# Altium integrated library Xilinx Spartan-IIE FPGA.IntLib: 605 symbols (part 3 of 4)
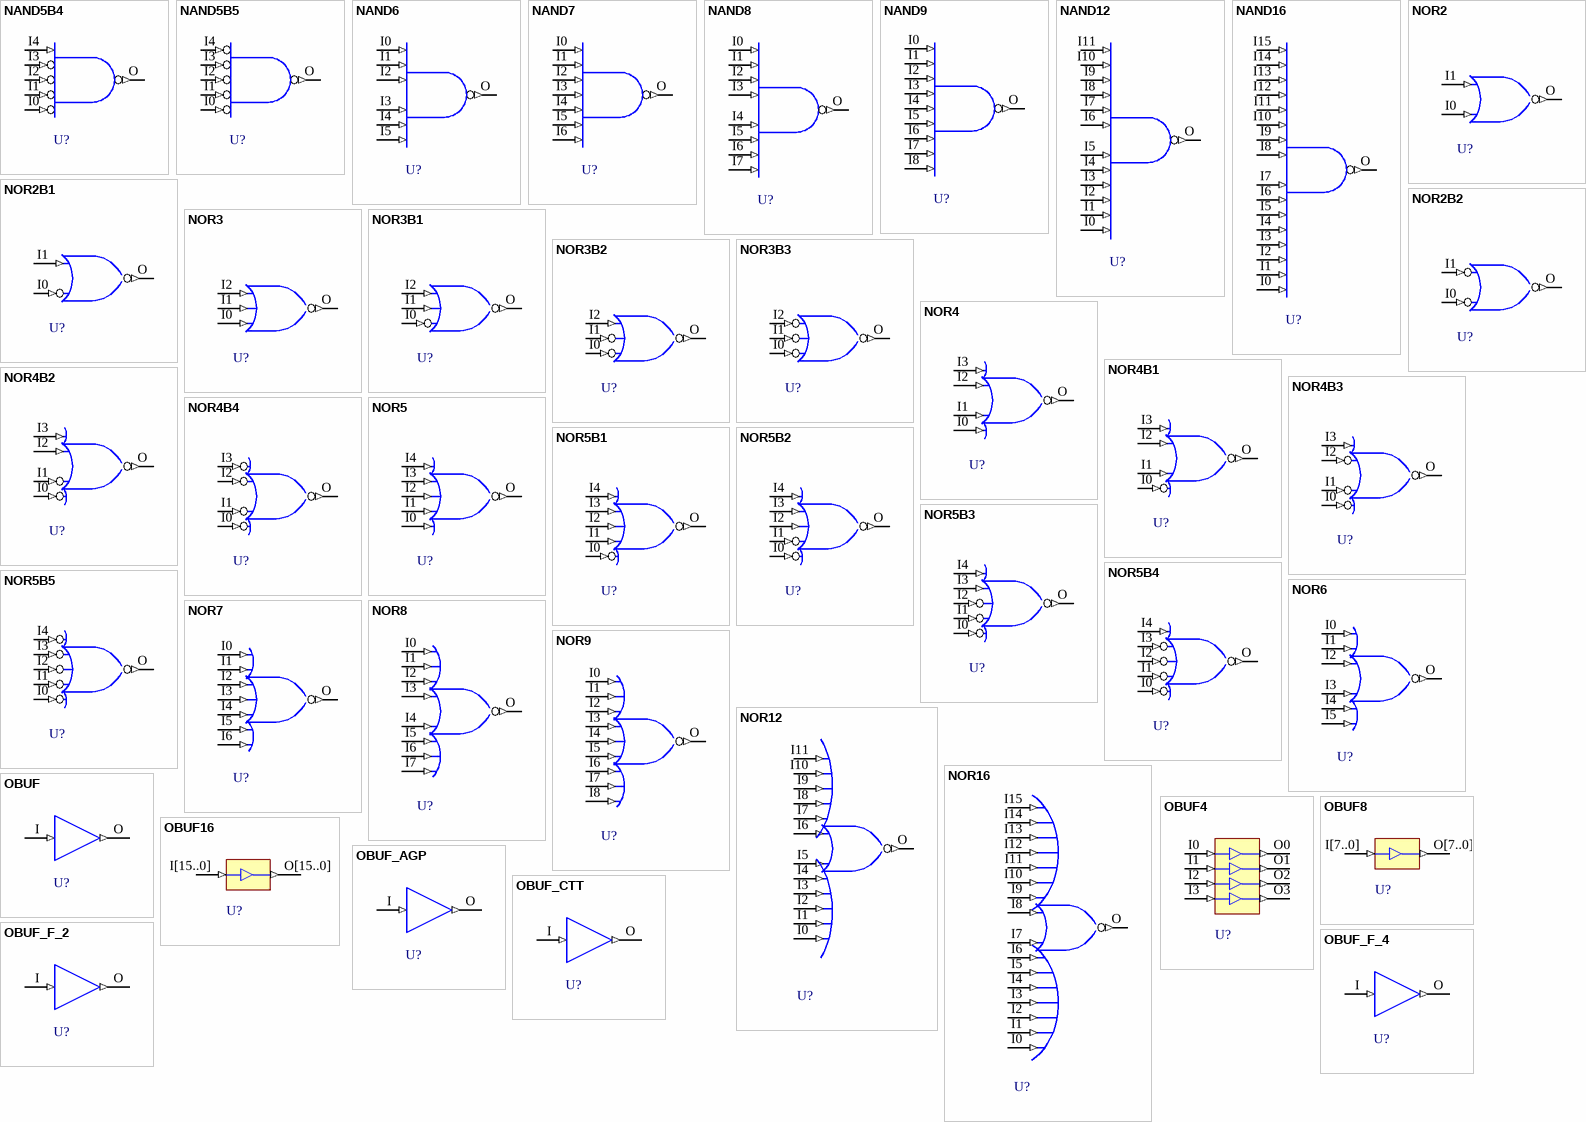
[diagram p17: symbols NAND5B4 to OBUF_F_4]

## NOR2B1
designator U?
2-Input NOR Gate with One Inverted Input; FPGAVendor: Xilinx; Published: 14-Mar-2007; Publisher: Altium Limited; HelpURL: http://toolbox.xilinx.com/docsan/xilinx7/books/docs/lib/lib.pdf
pins: I0 (in), I1 (in), O (out)

## NOR2B2
designator U?
2-Input NOR Gate with Two Inverted Inputs; FPGAVendor: Xilinx; Published: 14-Mar-2007; Publisher: Altium Limited; HelpURL: http://toolbox.xilinx.com/docsan/xilinx7/books/docs/lib/lib.pdf
pins: I0 (in), I1 (in), O (out)

## NOR3
designator U?
3-Input NOR Gate; FPGAVendor: Xilinx; Published: 14-Mar-2007; Publisher: Altium Limited; HelpURL: http://toolbox.xilinx.com/docsan/xilinx7/books/docs/lib/lib.pdf
pins: I0 (in), I1 (in), I2 (in), O (out)

## NOR3B1
designator U?
3-Input NOR Gate with One Inverted Input; FPGAVendor: Xilinx; Published: 14-Mar-2007; Publisher: Altium Limited; HelpURL: http://toolbox.xilinx.com/docsan/xilinx7/books/docs/lib/lib.pdf
pins: I0 (in), I1 (in), I2 (in), O (out)

## NOR3B2
designator U?
3-Input NOR Gate with Two Inverted Inputs; FPGAVendor: Xilinx; Published: 14-Mar-2007; Publisher: Altium Limited; HelpURL: http://toolbox.xilinx.com/docsan/xilinx7/books/docs/lib/lib.pdf
pins: I0 (in), I1 (in), I2 (in), O (out)

## NOR3B3
designator U?
3-Input NOR Gate with Three Inverted Inputs; FPGAVendor: Xilinx; Published: 14-Mar-2007; Publisher: Altium Limited; HelpURL: http://toolbox.xilinx.com/docsan/xilinx7/books/docs/lib/lib.pdf
pins: I0 (in), I1 (in), I2 (in), O (out)

## NOR4
designator U?
4-Input NOR Gate; FPGAVendor: Xilinx; Published: 14-Mar-2007; Publisher: Altium Limited; HelpURL: http://toolbox.xilinx.com/docsan/xilinx7/books/docs/lib/lib.pdf
pins: I0 (in), I1 (in), I2 (in), I3 (in), O (out)

## NOR4B1
designator U?
4-Input NOR Gate with One Inverted Input; FPGAVendor: Xilinx; Published: 14-Mar-2007; Publisher: Altium Limited; HelpURL: http://toolbox.xilinx.com/docsan/xilinx7/books/docs/lib/lib.pdf
pins: I0 (in), I1 (in), I2 (in), I3 (in), O (out)

## NOR4B2
designator U?
4-Input NOR Gate with Two Inverted Inputs; FPGAVendor: Xilinx; Published: 14-Mar-2007; Publisher: Altium Limited; HelpURL: http://toolbox.xilinx.com/docsan/xilinx7/books/docs/lib/lib.pdf
pins: I0 (in), I1 (in), I2 (in), I3 (in), O (out)

## NOR4B3
designator U?
4-Input NOR Gate with Three Inverted Inputs; FPGAVendor: Xilinx; Published: 14-Mar-2007; Publisher: Altium Limited; HelpURL: http://toolbox.xilinx.com/docsan/xilinx7/books/docs/lib/lib.pdf
pins: I0 (in), I1 (in), I2 (in), I3 (in), O (out)

## NOR4B4
designator U?
4-Input NOR Gate with Four Inverted Inputs; FPGAVendor: Xilinx; Published: 14-Mar-2007; Publisher: Altium Limited; HelpURL: http://toolbox.xilinx.com/docsan/xilinx7/books/docs/lib/lib.pdf
pins: I0 (in), I1 (in), I2 (in), I3 (in), O (out)

## NOR5
designator U?
5-Input NOR Gate; FPGAVendor: Xilinx; Published: 14-Mar-2007; Publisher: Altium Limited; HelpURL: http://toolbox.xilinx.com/docsan/xilinx7/books/docs/lib/lib.pdf
pins: I0 (in), I1 (in), I2 (in), I3 (in), I4 (in), O (out)

## NOR5B1
designator U?
5-Input NOR Gate with One Inverted Input; FPGAVendor: Xilinx; Published: 14-Mar-2007; Publisher: Altium Limited; HelpURL: http://toolbox.xilinx.com/docsan/xilinx7/books/docs/lib/lib.pdf
pins: I0 (in), I1 (in), I2 (in), I3 (in), I4 (in), O (out)

## NOR5B2
designator U?
5-Input NOR Gate with Two Inverted Inputs; FPGAVendor: Xilinx; Published: 14-Mar-2007; Publisher: Altium Limited; HelpURL: http://toolbox.xilinx.com/docsan/xilinx7/books/docs/lib/lib.pdf
pins: I0 (in), I1 (in), I2 (in), I3 (in), I4 (in), O (out)

## NOR5B3
designator U?
5-Input NOR Gate with Three Inverted Inputs; FPGAVendor: Xilinx; Published: 14-Mar-2007; Publisher: Altium Limited; HelpURL: http://toolbox.xilinx.com/docsan/xilinx7/books/docs/lib/lib.pdf
pins: I0 (in), I1 (in), I2 (in), I3 (in), I4 (in), O (out)

## NOR5B4
designator U?
5-Input NOR Gate with Four Inverted Inputs; FPGAVendor: Xilinx; Published: 14-Mar-2007; Publisher: Altium Limited; HelpURL: http://toolbox.xilinx.com/docsan/xilinx7/books/docs/lib/lib.pdf
pins: I0 (in), I1 (in), I2 (in), I3 (in), I4 (in), O (out)

## NOR5B5
designator U?
5-Input NOR Gate with Five Inverted Inputs; FPGAVendor: Xilinx; Published: 14-Mar-2007; Publisher: Altium Limited; HelpURL: http://toolbox.xilinx.com/docsan/xilinx7/books/docs/lib/lib.pdf
pins: I0 (in), I1 (in), I2 (in), I3 (in), I4 (in), O (out)

## NOR6
designator U?
6-Input NOR Gate; FPGAVendor: Xilinx; Published: 14-Mar-2007; Publisher: Altium Limited; HelpURL: http://toolbox.xilinx.com/docsan/xilinx7/books/docs/lib/lib.pdf
pins: I0 (in), I1 (in), I2 (in), I3 (in), I4 (in), I5 (in), O (out)

## NOR7
designator U?
7-Input NOR Gate; FPGAVendor: Xilinx; Published: 14-Mar-2007; Publisher: Altium Limited; HelpURL: http://toolbox.xilinx.com/docsan/xilinx7/books/docs/lib/lib.pdf
pins: I0 (in), I1 (in), I2 (in), I3 (in), I4 (in), I5 (in), I6 (in), O (out)

## NOR8
designator U?
8-Input NOR Gate; FPGAVendor: Xilinx; Published: 14-Mar-2007; Publisher: Altium Limited; HelpURL: http://toolbox.xilinx.com/docsan/xilinx7/books/docs/lib/lib.pdf
pins: I0 (in), I1 (in), I2 (in), I3 (in), I4 (in), I5 (in), I6 (in), I7 (in), O (out)

## NOR9
designator U?
9-Input NOR Gate; FPGAVendor: Xilinx; Published: 14-Mar-2007; Publisher: Altium Limited; HelpURL: http://toolbox.xilinx.com/docsan/xilinx7/books/docs/lib/lib.pdf
pins: I0 (in), I1 (in), I2 (in), I3 (in), I4 (in), I5 (in), I6 (in), I7 (in), I8 (in), O (out)

## NOR12
designator U?
12-Input NOR Gate; FPGAVendor: Xilinx; Published: 14-Mar-2007; Publisher: Altium Limited; HelpURL: http://toolbox.xilinx.com/docsan/xilinx7/books/docs/lib/lib.pdf
pins: I0 (in), I1 (in), I2 (in), I3 (in), I4 (in), I5 (in), I6 (in), I7 (in), I8 (in), I9 (in), I10 (in), I11 (in), O (out)

## NOR16
designator U?
16-Input NOR Gate; FPGAVendor: Xilinx; Published: 14-Mar-2007; Publisher: Altium Limited; HelpURL: http://toolbox.xilinx.com/docsan/xilinx7/books/docs/lib/lib.pdf
pins: I0 (in), I1 (in), I2 (in), I3 (in), I4 (in), I5 (in), I6 (in), I7 (in), I8 (in), I9 (in), I10 (in), I11 (in), I12 (in), I13 (in), I14 (in), I15 (in), O (out)

## OBUF
designator U?
Single-Output Buffer (using the LVTTL standard); FPGAVendor: Xilinx; Published: 14-Mar-2007; Publisher: Altium Limited; HelpURL: http://toolbox.xilinx.com/docsan/xilinx7/books/docs/lib/lib.pdf
pins: I (in), O (out)

## OBUF4
designator U?
Multiple-Output Buffers (using the LVTTL standard); FPGAVendor: Xilinx; Published: 14-Mar-2007; Publisher: Altium Limited; HelpURL: http://toolbox.xilinx.com/docsan/xilinx7/books/docs/lib/lib.pdf
pins: I0 (in), I1 (in), I2 (in), I3 (in), O0 (out), O1 (out), O2 (out), O3 (out)

## OBUF8
designator U?
Multiple-Output Buffers (using the LVTTL standard); FPGAVendor: Xilinx; Published: 14-Mar-2007; Publisher: Altium Limited; HelpURL: http://toolbox.xilinx.com/docsan/xilinx7/books/docs/lib/lib.pdf
pins: I[7..0] (in), O[7..0] (out)

## OBUF16
designator U?
Multiple-Output Buffers (using the LVTTL standard); FPGAVendor: Xilinx; Published: 14-Mar-2007; Publisher: Altium Limited; HelpURL: http://toolbox.xilinx.com/docsan/xilinx7/books/docs/lib/lib.pdf
pins: I[15..0] (in), O[15..0] (out)

## OBUF_AGP
designator U?
Single Output Buffer using the AGP standard; FPGAVendor: Xilinx; Published: 14-Mar-2007; Publisher: Altium Limited; HelpURL: http://toolbox.xilinx.com/docsan/xilinx7/books/docs/lib/lib.pdf
pins: I (in), O (out)

## OBUF_CTT
designator U?
Single Output Buffer using the CTT standard; FPGAVendor: Xilinx; Published: 14-Mar-2007; Publisher: Altium Limited; HelpURL: http://toolbox.xilinx.com/docsan/xilinx7/books/docs/lib/lib.pdf
pins: I (in), O (out)

## OBUF_F_2
designator U?
Single Output Buffer using the LVTTL standard; FPGAVendor: Xilinx; Published: 14-Mar-2007; Publisher: Altium Limited; HelpURL: http://toolbox.xilinx.com/docsan/xilinx7/books/docs/lib/lib.pdf
pins: I (in), O (out)

## OBUF_F_4
designator U?
Single Output Buffer using the LVTTL standard; FPGAVendor: Xilinx; Published: 14-Mar-2007; Publisher: Altium Limited; HelpURL: http://toolbox.xilinx.com/docsan/xilinx7/books/docs/lib/lib.pdf
pins: I (in), O (out)

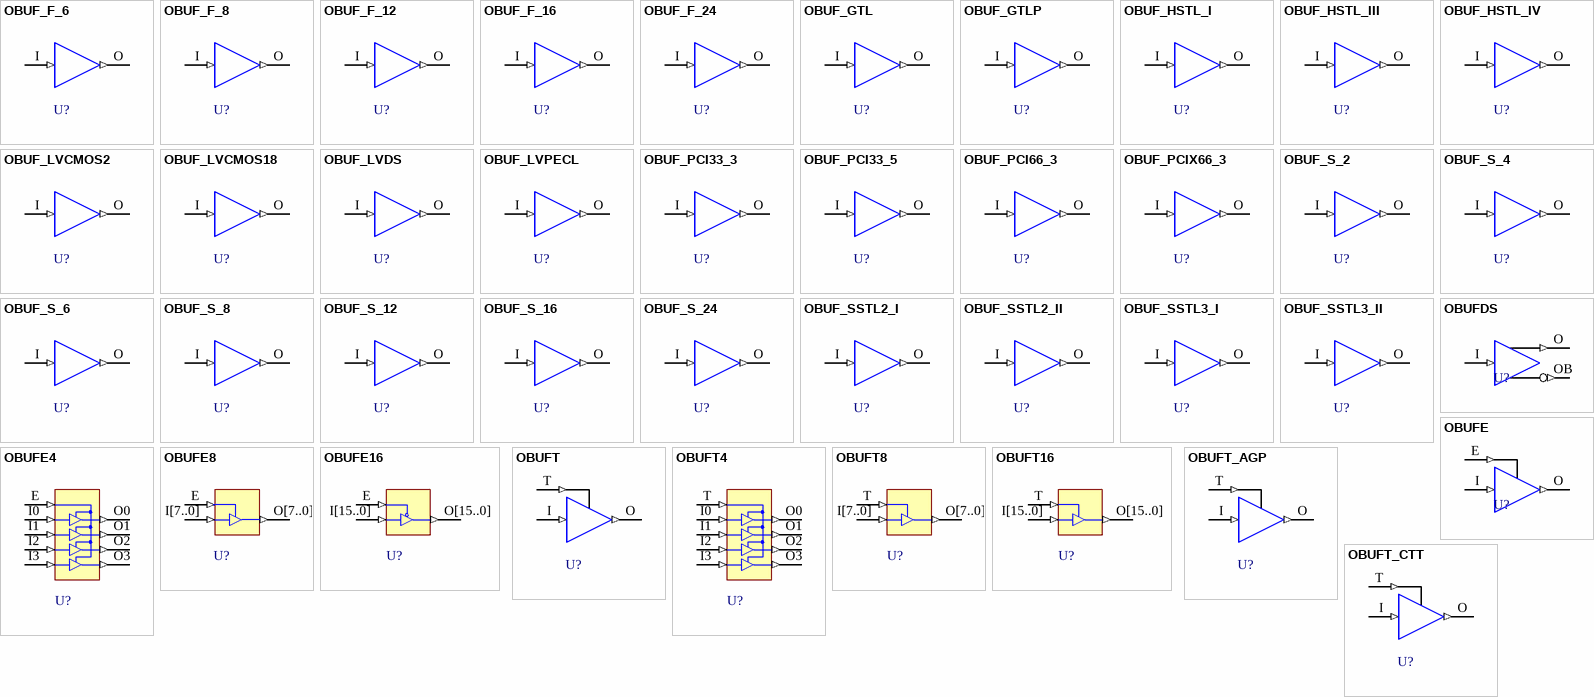
[diagram p10: symbols OBUF_F_6 to OBUFT_CTT]

## OBUF_F_6
designator U?
Single Output Buffer using the LVTTL standard; FPGAVendor: Xilinx; Published: 14-Mar-2007; Publisher: Altium Limited; HelpURL: http://toolbox.xilinx.com/docsan/xilinx7/books/docs/lib/lib.pdf
pins: I (in), O (out)

## OBUF_F_8
designator U?
Single Output Buffer using the LVTTL standard; FPGAVendor: Xilinx; Published: 14-Mar-2007; Publisher: Altium Limited; HelpURL: http://toolbox.xilinx.com/docsan/xilinx7/books/docs/lib/lib.pdf
pins: I (in), O (out)

## OBUF_F_12
designator U?
Single Output Buffer using the LVTTL standard; FPGAVendor: Xilinx; Published: 14-Mar-2007; Publisher: Altium Limited; HelpURL: http://toolbox.xilinx.com/docsan/xilinx7/books/docs/lib/lib.pdf
pins: I (in), O (out)

## OBUF_F_16
designator U?
Single Output Buffer using the LVTTL standard; FPGAVendor: Xilinx; Published: 14-Mar-2007; Publisher: Altium Limited; HelpURL: http://toolbox.xilinx.com/docsan/xilinx7/books/docs/lib/lib.pdf
pins: I (in), O (out)

## OBUF_F_24
designator U?
Single Output Buffer using the LVTTL standard; FPGAVendor: Xilinx; Published: 14-Mar-2007; Publisher: Altium Limited; HelpURL: http://toolbox.xilinx.com/docsan/xilinx7/books/docs/lib/lib.pdf
pins: I (in), O (out)

## OBUF_GTL
designator U?
Single Output Buffer using the GTL standard; FPGAVendor: Xilinx; Published: 14-Mar-2007; Publisher: Altium Limited; HelpURL: http://toolbox.xilinx.com/docsan/xilinx7/books/docs/lib/lib.pdf
pins: I (in), O (out)

## OBUF_GTLP
designator U?
Single Output Buffer using the GTL Plus standard; FPGAVendor: Xilinx; Published: 14-Mar-2007; Publisher: Altium Limited; HelpURL: http://toolbox.xilinx.com/docsan/xilinx7/books/docs/lib/lib.pdf
pins: I (in), O (out)

## OBUF_HSTL_I
designator U?
Single Output Buffer using the HSTL_I standard; FPGAVendor: Xilinx; Published: 14-Mar-2007; Publisher: Altium Limited; HelpURL: http://toolbox.xilinx.com/docsan/xilinx7/books/docs/lib/lib.pdf
pins: I (in), O (out)

## OBUF_HSTL_III
designator U?
Single Output Buffer using the HSTL_III standard; FPGAVendor: Xilinx; Published: 14-Mar-2007; Publisher: Altium Limited; HelpURL: http://toolbox.xilinx.com/docsan/xilinx7/books/docs/lib/lib.pdf
pins: I (in), O (out)

## OBUF_HSTL_IV
designator U?
Single Output Buffer using the HSTL_IV standard; FPGAVendor: Xilinx; Published: 14-Mar-2007; Publisher: Altium Limited; HelpURL: http://toolbox.xilinx.com/docsan/xilinx7/books/docs/lib/lib.pdf
pins: I (in), O (out)

## OBUF_LVCMOS2
designator U?
Single Output Buffer using the LVCMOS2 standard; FPGAVendor: Xilinx; Note: Not supported for Virtex; Published: 14-Mar-2007; Publisher: Altium Limited; HelpURL: http://toolbox.xilinx.com/docsan/xilinx7/books/docs/lib/lib.pdf
pins: I (in), O (out)

## OBUF_LVCMOS18
designator U?
Single Output Buffer using the LVCMOS18 standard; FPGAVendor: Xilinx; Note: Not supported for Virtex; Published: 14-Mar-2007; Publisher: Altium Limited; HelpURL: http://toolbox.xilinx.com/docsan/xilinx7/books/docs/lib/lib.pdf
pins: I (in), O (out)

## OBUF_LVDS
designator U?
Single Output Buffer using the LVDS standard; FPGAVendor: Xilinx; Note: Not supported for Virtex; Published: 14-Mar-2007; Publisher: Altium Limited; HelpURL: http://toolbox.xilinx.com/docsan/xilinx7/books/docs/lib/lib.pdf
pins: I (in), O (out)

## OBUF_LVPECL
designator U?
Single Output Buffer using the LVPECL standard; FPGAVendor: Xilinx; Note: Not supported for Virtex; Published: 14-Mar-2007; Publisher: Altium Limited; HelpURL: http://toolbox.xilinx.com/docsan/xilinx7/books/docs/lib/lib.pdf
pins: I (in), O (out)

## OBUF_PCI33_3
designator U?
Single Output Buffer using the PCI33_3 standard; FPGAVendor: Xilinx; Published: 14-Mar-2007; Publisher: Altium Limited; HelpURL: http://toolbox.xilinx.com/docsan/xilinx7/books/docs/lib/lib.pdf
pins: I (in), O (out)

## OBUF_PCI33_5
designator U?
Single Output Buffer using the PCI33_5 standard; FPGAVendor: Xilinx; Published: 14-Mar-2007; Publisher: Altium Limited; HelpURL: http://toolbox.xilinx.com/docsan/xilinx7/books/docs/lib/lib.pdf
pins: I (in), O (out)

## OBUF_PCI66_3
designator U?
Single Output Buffer using the PCI66_3 standard; FPGAVendor: Xilinx; Published: 14-Mar-2007; Publisher: Altium Limited; HelpURL: http://toolbox.xilinx.com/docsan/xilinx7/books/docs/lib/lib.pdf
pins: I (in), O (out)

## OBUF_PCIX66_3
designator U?
Single Output Buffer using the PCIX66_3 standard; FPGAVendor: Xilinx; Published: 14-Mar-2007; Publisher: Altium Limited; HelpURL: http://toolbox.xilinx.com/docsan/xilinx7/books/docs/lib/lib.pdf
pins: I (in), O (out)

## OBUF_S_2
designator U?
Single Output Buffer using the  LVTTL standard; FPGAVendor: Xilinx; Published: 14-Mar-2007; Publisher: Altium Limited; HelpURL: http://toolbox.xilinx.com/docsan/xilinx7/books/docs/lib/lib.pdf
pins: I (in), O (out)

## OBUF_S_4
designator U?
Single Output Buffer using the LVTTL standard; FPGAVendor: Xilinx; Published: 14-Mar-2007; Publisher: Altium Limited; HelpURL: http://toolbox.xilinx.com/docsan/xilinx7/books/docs/lib/lib.pdf
pins: I (in), O (out)

## OBUF_S_6
designator U?
Single Output Buffer using the LVTTL standard; FPGAVendor: Xilinx; Published: 14-Mar-2007; Publisher: Altium Limited; HelpURL: http://toolbox.xilinx.com/docsan/xilinx7/books/docs/lib/lib.pdf
pins: I (in), O (out)

## OBUF_S_8
designator U?
Single Output Buffer using the LVTTL standard; FPGAVendor: Xilinx; Published: 14-Mar-2007; Publisher: Altium Limited; HelpURL: http://toolbox.xilinx.com/docsan/xilinx7/books/docs/lib/lib.pdf
pins: I (in), O (out)

## OBUF_S_12
designator U?
Single Output Buffer using the LVTTL standard; FPGAVendor: Xilinx; Published: 14-Mar-2007; Publisher: Altium Limited; HelpURL: http://toolbox.xilinx.com/docsan/xilinx7/books/docs/lib/lib.pdf
pins: I (in), O (out)

## OBUF_S_16
designator U?
Single Output Buffer using the LVTTL standard; FPGAVendor: Xilinx; Published: 14-Mar-2007; Publisher: Altium Limited; HelpURL: http://toolbox.xilinx.com/docsan/xilinx7/books/docs/lib/lib.pdf
pins: I (in), O (out)

## OBUF_S_24
designator U?
Single Output Buffer using the LVTTL standard; FPGAVendor: Xilinx; Published: 14-Mar-2007; Publisher: Altium Limited; HelpURL: http://toolbox.xilinx.com/docsan/xilinx7/books/docs/lib/lib.pdf
pins: I (in), O (out)

## OBUF_SSTL2_I
designator U?
Single Output Buffer using the SSTL2_I standard; FPGAVendor: Xilinx; Published: 14-Mar-2007; Publisher: Altium Limited; HelpURL: http://toolbox.xilinx.com/docsan/xilinx7/books/docs/lib/lib.pdf
pins: I (in), O (out)

## OBUF_SSTL2_II
designator U?
Single Output Buffer using the SSTL2_II standard; FPGAVendor: Xilinx; Published: 14-Mar-2007; Publisher: Altium Limited; HelpURL: http://toolbox.xilinx.com/docsan/xilinx7/books/docs/lib/lib.pdf
pins: I (in), O (out)

## OBUF_SSTL3_I
designator U?
Single Output Buffer using the SSTL3_I standard; FPGAVendor: Xilinx; Published: 14-Mar-2007; Publisher: Altium Limited; HelpURL: http://toolbox.xilinx.com/docsan/xilinx7/books/docs/lib/lib.pdf
pins: I (in), O (out)

## OBUF_SSTL3_II
designator U?
Single Output Buffer using the SSTL3_II standard; FPGAVendor: Xilinx; Published: 14-Mar-2007; Publisher: Altium Limited; HelpURL: http://toolbox.xilinx.com/docsan/xilinx7/books/docs/lib/lib.pdf
pins: I (in), O (out)

## OBUFDS
designator U?
Differential Signaling Output Buffer with Selectable I/O Interface; FPGAVendor: Xilinx; Published: 14-Mar-2007; Publisher: Altium Limited; HelpURL: http://toolbox.xilinx.com/docsan/xilinx7/books/docs/s3esc/s3esc.pdf
pins: I (in), O (out), OB (out)

## OBUFE
designator U?
3-State Output Buffer with Active-High Output Enable; FPGAVendor: Xilinx; Published: 14-Mar-2007; Publisher: Altium Limited; HelpURL: http://toolbox.xilinx.com/docsan/xilinx7/books/docs/lib/lib.pdf
pins: E (in), I (in), O (out)

## OBUFE4
designator U?
3-State Output Buffers with Active-High Output Enable; FPGAVendor: Xilinx; Published: 14-Mar-2007; Publisher: Altium Limited; HelpURL: http://toolbox.xilinx.com/docsan/xilinx7/books/docs/lib/lib.pdf
pins: E (in), I0 (in), I1 (in), I2 (in), I3 (in), O0 (out), O1 (out), O2 (out), O3 (out)

## OBUFE8
designator U?
3-State Output Buffers with Active-High Output Enable; FPGAVendor: Xilinx; Published: 14-Mar-2007; Publisher: Altium Limited; HelpURL: http://toolbox.xilinx.com/docsan/xilinx7/books/docs/lib/lib.pdf
pins: E (in), I[7..0] (in), O[7..0] (out)

## OBUFE16
designator U?
3-State Output Buffers with Active-High Output Enable; FPGAVendor: Xilinx; Published: 14-Mar-2007; Publisher: Altium Limited; HelpURL: http://toolbox.xilinx.com/docsan/xilinx7/books/docs/lib/lib.pdf
pins: E (in), I[15..0] (in), O[15..0] (out)

## OBUFT
designator U?
Single 3-State Output Buffer with Active-Low Output Enable; FPGAVendor: Xilinx; Published: 14-Mar-2007; Publisher: Altium Limited; HelpURL: http://toolbox.xilinx.com/docsan/xilinx7/books/docs/lib/lib.pdf
pins: I (in), O (out), T (in)

## OBUFT4
designator U?
Multiple 3-State Output Buffers with Active-Low Output Enable; FPGAVendor: Xilinx; Published: 14-Mar-2007; Publisher: Altium Limited; HelpURL: http://toolbox.xilinx.com/docsan/xilinx7/books/docs/lib/lib.pdf
pins: I0 (in), I1 (in), I2 (in), I3 (in), O0 (out), O1 (out), O2 (out), O3 (out), T (in)

## OBUFT8
designator U?
Multiple 3-State Output Buffers with Active-Low Output Enable; FPGAVendor: Xilinx; Published: 14-Mar-2007; Publisher: Altium Limited; HelpURL: http://toolbox.xilinx.com/docsan/xilinx7/books/docs/lib/lib.pdf
pins: I[7..0] (in), O[7..0] (out), T (in)

## OBUFT16
designator U?
Multiple 3-State Output Buffers with Active-Low Output Enable; FPGAVendor: Xilinx; Published: 14-Mar-2007; Publisher: Altium Limited; HelpURL: http://toolbox.xilinx.com/docsan/xilinx7/books/docs/lib/lib.pdf
pins: I[15..0] (in), O[15..0] (out), T (in)

## OBUFT_AGP
designator U?
Single 3-State Output Buffer with Active-Low Output Enable using the AGP standard; FPGAVendor: Xilinx; Published: 14-Mar-2007; Publisher: Altium Limited; HelpURL: http://toolbox.xilinx.com/docsan/xilinx7/books/docs/lib/lib.pdf
pins: I (in), O (out), T (in)

## OBUFT_CTT
designator U?
Single 3-State Output Buffer with Active-Low Output Enable using the CTT standard; FPGAVendor: Xilinx; Published: 14-Mar-2007; Publisher: Altium Limited; HelpURL: http://toolbox.xilinx.com/docsan/xilinx7/books/docs/lib/lib.pdf
pins: I (in), O (out), T (in)

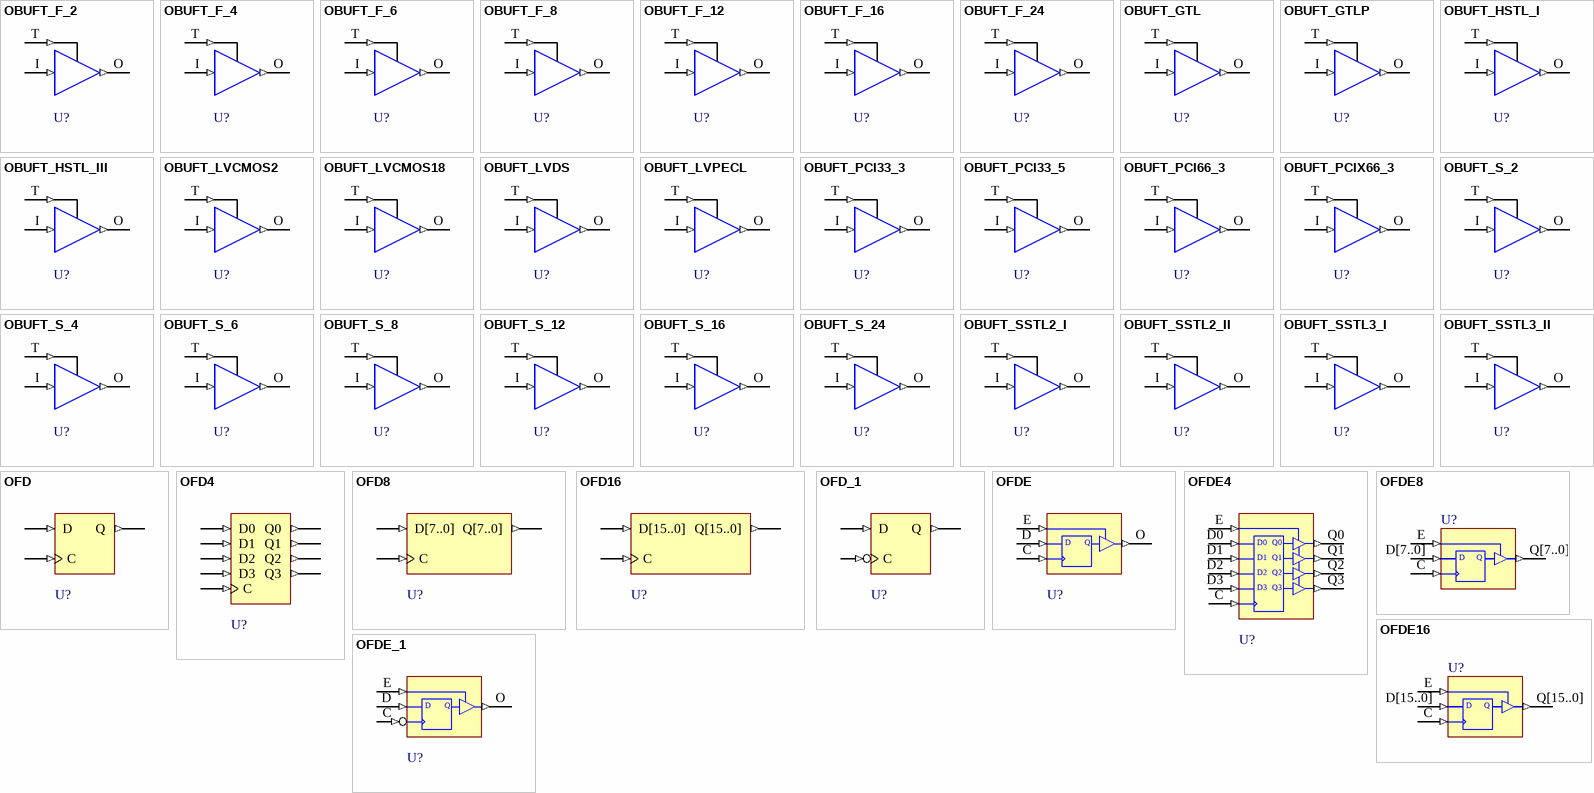
[diagram p11: symbols OBUFT_F_2 to OFDE_1]

## OBUFT_F_2
designator U?
Single 3-State Output Buffer with Active-Low Output Enable using the LVTTL standard; FPGAVendor: Xilinx; Published: 14-Mar-2007; Publisher: Altium Limited; HelpURL: http://toolbox.xilinx.com/docsan/xilinx7/books/docs/lib/lib.pdf
pins: I (in), O (out), T (in)

## OBUFT_F_4
designator U?
Single 3-State Output Buffer with Active-Low Output Enable using the LVTTL standard; FPGAVendor: Xilinx; Published: 14-Mar-2007; Publisher: Altium Limited; HelpURL: http://toolbox.xilinx.com/docsan/xilinx7/books/docs/lib/lib.pdf
pins: I (in), O (out), T (in)

## OBUFT_F_6
designator U?
Single 3-State Output Buffer with Active-Low Output Enable using the LVTTL standard; FPGAVendor: Xilinx; Published: 14-Mar-2007; Publisher: Altium Limited; HelpURL: http://toolbox.xilinx.com/docsan/xilinx7/books/docs/lib/lib.pdf
pins: I (in), O (out), T (in)

## OBUFT_F_8
designator U?
Single 3-State Output Buffer with Active-Low Output Enable using the LVTTL standard; FPGAVendor: Xilinx; Published: 14-Mar-2007; Publisher: Altium Limited; HelpURL: http://toolbox.xilinx.com/docsan/xilinx7/books/docs/lib/lib.pdf
pins: I (in), O (out), T (in)

## OBUFT_F_12
designator U?
Single 3-State Output Buffer with Active-Low Output Enable using the LVTTL standard; FPGAVendor: Xilinx; Published: 14-Mar-2007; Publisher: Altium Limited; HelpURL: http://toolbox.xilinx.com/docsan/xilinx7/books/docs/lib/lib.pdf
pins: I (in), O (out), T (in)

## OBUFT_F_16
designator U?
Single 3-State Output Buffer with Active-Low Output Enable using the LVTTL standard; FPGAVendor: Xilinx; Published: 14-Mar-2007; Publisher: Altium Limited; HelpURL: http://toolbox.xilinx.com/docsan/xilinx7/books/docs/lib/lib.pdf
pins: I (in), O (out), T (in)

## OBUFT_F_24
designator U?
Single 3-State Output Buffer with Active-Low Output Enable using the LVTTL standard; FPGAVendor: Xilinx; Published: 14-Mar-2007; Publisher: Altium Limited; HelpURL: http://toolbox.xilinx.com/docsan/xilinx7/books/docs/lib/lib.pdf
pins: I (in), O (out), T (in)

## OBUFT_GTL
designator U?
Single 3-State Output Buffer with Active-Low Output Enable using the GTL standard; FPGAVendor: Xilinx; Published: 14-Mar-2007; Publisher: Altium Limited; HelpURL: http://toolbox.xilinx.com/docsan/xilinx7/books/docs/lib/lib.pdf
pins: I (in), O (out), T (in)

## OBUFT_GTLP
designator U?
Single 3-State Output Buffer with Active-Low Output Enable using the GTL Plus standard; FPGAVendor: Xilinx; Published: 14-Mar-2007; Publisher: Altium Limited; HelpURL: http://toolbox.xilinx.com/docsan/xilinx7/books/docs/lib/lib.pdf
pins: I (in), O (out), T (in)

## OBUFT_HSTL_I
designator U?
Single 3-State Output Buffer with Active-Low Output Enable using the HSTL_I standard; FPGAVendor: Xilinx; Published: 14-Mar-2007; Publisher: Altium Limited; HelpURL: http://toolbox.xilinx.com/docsan/xilinx7/books/docs/lib/lib.pdf
pins: I (in), O (out), T (in)

## OBUFT_HSTL_III
designator U?
Single 3-State Output Buffer with Active-Low Output Enable using the HSTL_III standard; FPGAVendor: Xilinx; Published: 14-Mar-2007; Publisher: Altium Limited; HelpURL: http://toolbox.xilinx.com/docsan/xilinx7/books/docs/lib/lib.pdf
pins: I (in), O (out), T (in)

## OBUFT_LVCMOS2
designator U?
Single 3-State Output Buffer with Active-Low Output Enable using the LVCMOS2 standard; FPGAVendor: Xilinx; Note: Not supported for Virtex; Published: 14-Mar-2007; Publisher: Altium Limited; HelpURL: http://toolbox.xilinx.com/docsan/xilinx7/books/docs/lib/lib.pdf
pins: I (in), O (out), T (in)

## OBUFT_LVCMOS18
designator U?
Single 3-State Output Buffer with Active-Low Output Enable using the LVCMOS18 standard; FPGAVendor: Xilinx; Note: Not supported for Virtex; Published: 14-Mar-2007; Publisher: Altium Limited; HelpURL: http://toolbox.xilinx.com/docsan/xilinx7/books/docs/lib/lib.pdf
pins: I (in), O (out), T (in)

## OBUFT_LVDS
designator U?
Single 3-State Output Buffer with Active-Low Output Enable using the LVDS standard; FPGAVendor: Xilinx; Published: 14-Mar-2007; Publisher: Altium Limited; HelpURL: http://toolbox.xilinx.com/docsan/xilinx7/books/docs/lib/lib.pdf
pins: I (in), O (out), T (in)

## OBUFT_LVPECL
designator U?
Single 3-State Output Buffer with Active-Low Output Enable using the LVPECL standard; FPGAVendor: Xilinx; Published: 14-Mar-2007; Publisher: Altium Limited; HelpURL: http://toolbox.xilinx.com/docsan/xilinx7/books/docs/lib/lib.pdf
pins: I (in), O (out), T (in)

## OBUFT_PCI33_3
designator U?
Single 3-State Output Buffer with Active-Low Output Enable using the PCI33_3 standard; FPGAVendor: Xilinx; Published: 14-Mar-2007; Publisher: Altium Limited; HelpURL: http://toolbox.xilinx.com/docsan/xilinx7/books/docs/lib/lib.pdf
pins: I (in), O (out), T (in)

## OBUFT_PCI33_5
designator U?
Single 3-State Output Buffer with Active-Low Output Enable using the PCI33_5 standard; FPGAVendor: Xilinx; Published: 14-Mar-2007; Publisher: Altium Limited; HelpURL: http://toolbox.xilinx.com/docsan/xilinx7/books/docs/lib/lib.pdf
pins: I (in), O (out), T (in)

## OBUFT_PCI66_3
designator U?
Single 3-State Output Buffer with Active-Low Output Enable using the PCI66_3 standard; FPGAVendor: Xilinx; Published: 14-Mar-2007; Publisher: Altium Limited; HelpURL: http://toolbox.xilinx.com/docsan/xilinx7/books/docs/lib/lib.pdf
pins: I (in), O (out), T (in)

## OBUFT_PCIX66_3
designator U?
Single 3-State Output Buffer with Active-Low Output Enable using the PCIX66_3 standard; FPGAVendor: Xilinx; Published: 14-Mar-2007; Publisher: Altium Limited; HelpURL: http://toolbox.xilinx.com/docsan/xilinx7/books/docs/lib/lib.pdf
pins: I (in), O (out), T (in)

## OBUFT_S_2
designator U?
Single 3-State Output Buffer with Active-Low Output Enable using the LVTTL standard; FPGAVendor: Xilinx; Published: 14-Mar-2007; Publisher: Altium Limited; HelpURL: http://toolbox.xilinx.com/docsan/xilinx7/books/docs/lib/lib.pdf
pins: I (in), O (out), T (in)

## OBUFT_S_4
designator U?
Single 3-State Output Buffer with Active-Low Output Enable using the LVTTL standard; FPGAVendor: Xilinx; Published: 14-Mar-2007; Publisher: Altium Limited; HelpURL: http://toolbox.xilinx.com/docsan/xilinx7/books/docs/lib/lib.pdf
pins: I (in), O (out), T (in)

## OBUFT_S_6
designator U?
Single 3-State Output Buffer with Active-Low Output Enable using the LVTTL standard; FPGAVendor: Xilinx; Published: 14-Mar-2007; Publisher: Altium Limited; HelpURL: http://toolbox.xilinx.com/docsan/xilinx7/books/docs/lib/lib.pdf
pins: I (in), O (out), T (in)

## OBUFT_S_8
designator U?
Single 3-State Output Buffer with Active-Low Output Enable using the LVTTL standard; FPGAVendor: Xilinx; Published: 14-Mar-2007; Publisher: Altium Limited; HelpURL: http://toolbox.xilinx.com/docsan/xilinx7/books/docs/lib/lib.pdf
pins: I (in), O (out), T (in)

## OBUFT_S_12
designator U?
Single 3-State Output Buffer with Active-Low Output Enable using the LVTTL standard; FPGAVendor: Xilinx; Published: 14-Mar-2007; Publisher: Altium Limited; HelpURL: http://toolbox.xilinx.com/docsan/xilinx7/books/docs/lib/lib.pdf
pins: I (in), O (out), T (in)

## OBUFT_S_16
designator U?
Single 3-State Output Buffer with Active-Low Output Enable using the LVTTL standard; FPGAVendor: Xilinx; Published: 14-Mar-2007; Publisher: Altium Limited; HelpURL: http://toolbox.xilinx.com/docsan/xilinx7/books/docs/lib/lib.pdf
pins: I (in), O (out), T (in)

## OBUFT_S_24
designator U?
Single 3-State Output Buffer with Active-Low Output Enable using the LVTTL standard; FPGAVendor: Xilinx; Published: 14-Mar-2007; Publisher: Altium Limited; HelpURL: http://toolbox.xilinx.com/docsan/xilinx7/books/docs/lib/lib.pdf
pins: I (in), O (out), T (in)

## OBUFT_SSTL2_I
designator U?
Single 3-State Output Buffer with Active-Low Output Enable using the SSTL2_I standard; FPGAVendor: Xilinx; Published: 14-Mar-2007; Publisher: Altium Limited; HelpURL: http://toolbox.xilinx.com/docsan/xilinx7/books/docs/lib/lib.pdf
pins: I (in), O (out), T (in)

## OBUFT_SSTL2_II
designator U?
Single 3-State Output Buffer with Active-Low Output Enable using the SSTL2_II standard; FPGAVendor: Xilinx; Published: 14-Mar-2007; Publisher: Altium Limited; HelpURL: http://toolbox.xilinx.com/docsan/xilinx7/books/docs/lib/lib.pdf
pins: I (in), O (out), T (in)

## OBUFT_SSTL3_I
designator U?
Single 3-State Output Buffer with Active-Low Output Enable using the SSTL3_I standard; FPGAVendor: Xilinx; Published: 14-Mar-2007; Publisher: Altium Limited; HelpURL: http://toolbox.xilinx.com/docsan/xilinx7/books/docs/lib/lib.pdf
pins: I (in), O (out), T (in)

## OBUFT_SSTL3_II
designator U?
Single 3-State Output Buffer with Active-Low Output Enable using the SSTL3_II standard; FPGAVendor: Xilinx; Published: 14-Mar-2007; Publisher: Altium Limited; HelpURL: http://toolbox.xilinx.com/docsan/xilinx7/books/docs/lib/lib.pdf
pins: I (in), O (out), T (in)

## OFD
designator U?
Single-Output D Flip-Flop; FPGAVendor: Xilinx; Published: 14-Mar-2007; Publisher: Altium Limited; HelpURL: http://toolbox.xilinx.com/docsan/xilinx7/books/docs/lib/lib.pdf
pins: C (in), D (in), Q (out)

## OFD4
designator U?
Multiple-Output D Flip-Flop; FPGAVendor: Xilinx; Published: 14-Mar-2007; Publisher: Altium Limited; HelpURL: http://toolbox.xilinx.com/docsan/xilinx7/books/docs/lib/lib.pdf
pins: C (in), D0 (in), D1 (in), D2 (in), D3 (in), Q0 (out), Q1 (out), Q2 (out), Q3 (out)

## OFD8
designator U?
Multiple-Output D Flip-Flop; FPGAVendor: Xilinx; Published: 14-Mar-2007; Publisher: Altium Limited; HelpURL: http://toolbox.xilinx.com/docsan/xilinx7/books/docs/lib/lib.pdf
pins: C (in), D[7..0] (in), Q[7..0] (out)

## OFD16
designator U?
Multiple-Output D Flip-Flop; FPGAVendor: Xilinx; Published: 14-Mar-2007; Publisher: Altium Limited; HelpURL: http://toolbox.xilinx.com/docsan/xilinx7/books/docs/lib/lib.pdf
pins: C (in), D[15..0] (in), Q[15..0] (out)

## OFD_1
designator U?
Output D Flip-Flop with Inverted Clock; FPGAVendor: Xilinx; Published: 14-Mar-2007; Publisher: Altium Limited; HelpURL: http://toolbox.xilinx.com/docsan/xilinx7/books/docs/lib/lib.pdf
pins: C (in), D (in), Q (out)

## OFDE
designator U?
D Flip-Flop with Active-High Enable Output Buffer; FPGAVendor: Xilinx; Published: 14-Mar-2007; Publisher: Altium Limited; HelpURL: http://toolbox.xilinx.com/docsan/xilinx7/books/docs/lib/lib.pdf
pins: C (in), D (in), E (in), O (out)
text: Q

## OFDE4
designator U?
D Flip-Flops with Active-High Enable Output Buffers; FPGAVendor: Xilinx; Published: 14-Mar-2007; Publisher: Altium Limited; HelpURL: http://toolbox.xilinx.com/docsan/xilinx7/books/docs/lib/lib.pdf
pins: C (in), D0 (in), D1 (in), D2 (in), D3 (in), E (in), Q0 (out), Q1 (out), Q2 (out), Q3 (out)

## OFDE8
designator U?
D Flip-Flops with Active-High Enable Output Buffers; FPGAVendor: Xilinx; Published: 14-Mar-2007; Publisher: Altium Limited; HelpURL: http://toolbox.xilinx.com/docsan/xilinx7/books/docs/lib/lib.pdf
pins: C (in), D[7..0] (in), E (in), Q[7..0] (out)
text: D; Q

## OFDE16
designator U?
D Flip-Flops with Active-High Enable Output Buffers; FPGAVendor: Xilinx; Published: 14-Mar-2007; Publisher: Altium Limited; HelpURL: http://toolbox.xilinx.com/docsan/xilinx7/books/docs/lib/lib.pdf
pins: C (in), D[15..0] (in), E (in), Q[15..0] (out)
text: D; Q

## OFDE_1
designator U?
D Flip-Flop with Active-High Enable Output Buffer and Inverted Clock; FPGAVendor: Xilinx; Published: 14-Mar-2007; Publisher: Altium Limited; HelpURL: http://toolbox.xilinx.com/docsan/xilinx7/books/docs/lib/lib.pdf
pins: C (in), D (in), E (in), O (out)
text: Q

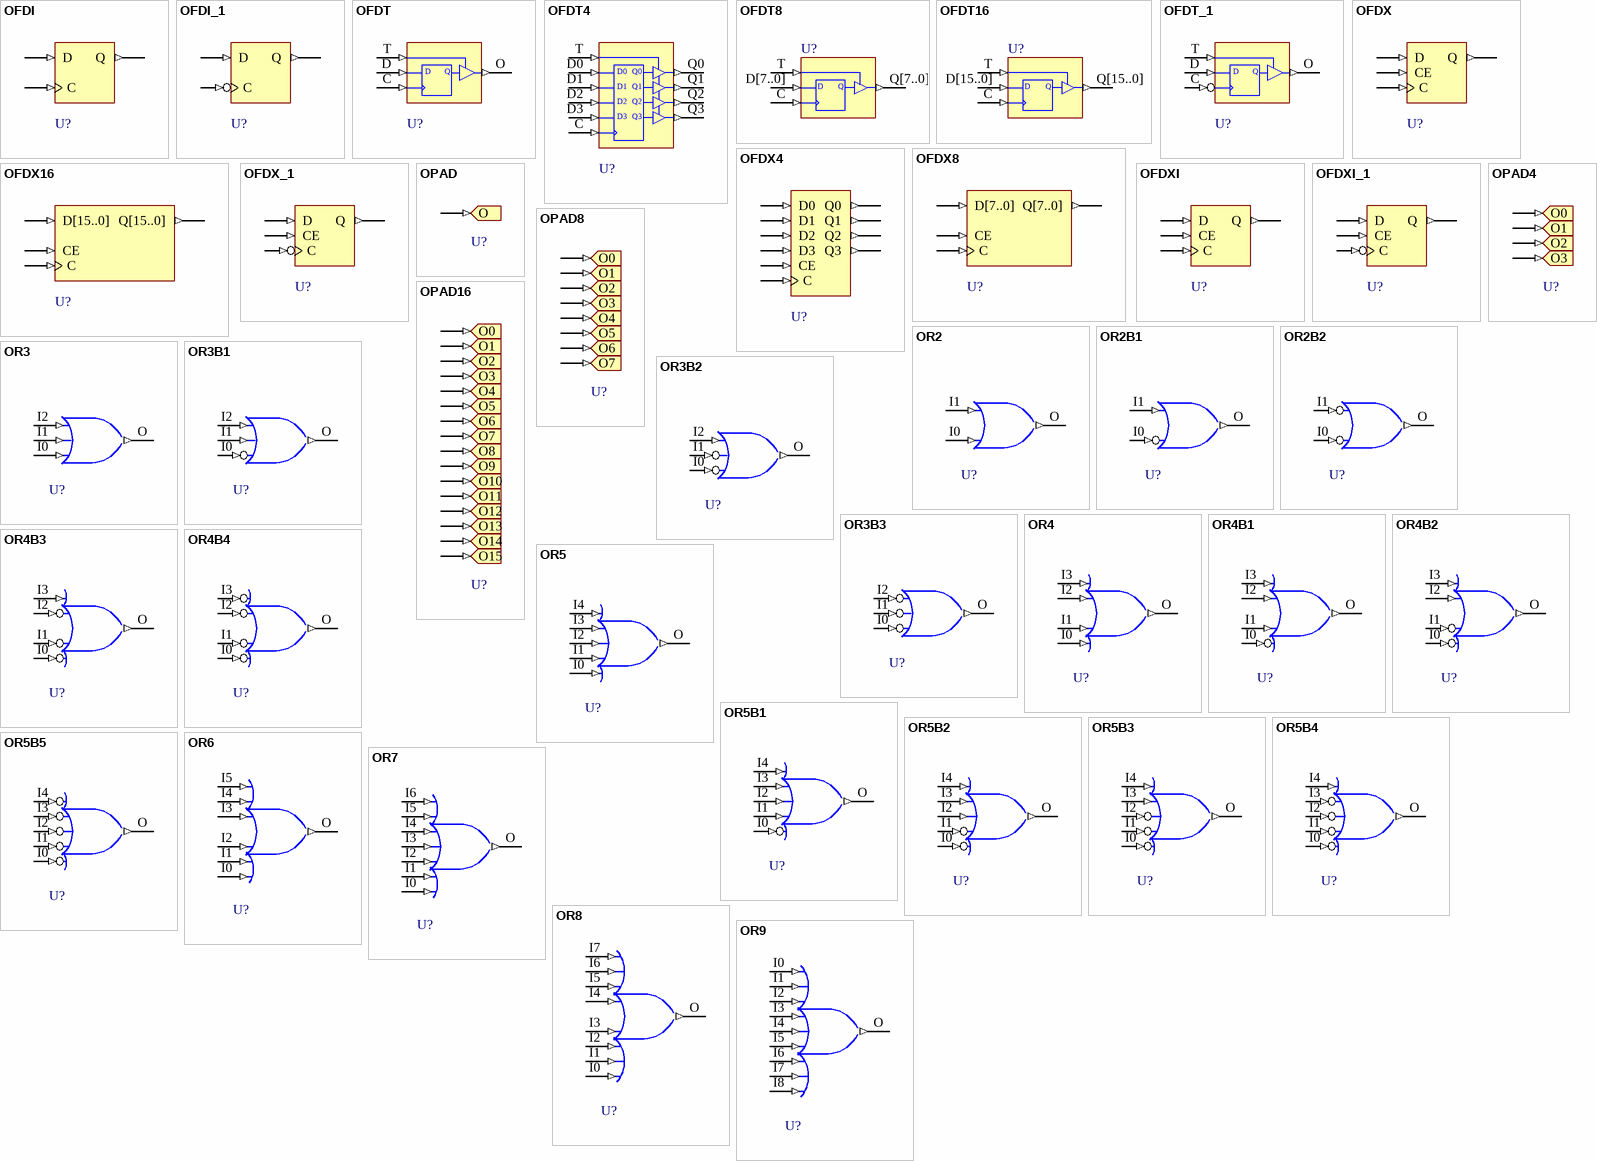
[diagram p12: symbols OFDI to OR9]

## OFDI
designator U?
Output D Flip-Flop (Asynchronous Preset); FPGAVendor: Xilinx; Published: 14-Mar-2007; Publisher: Altium Limited; HelpURL: http://toolbox.xilinx.com/docsan/xilinx7/books/docs/lib/lib.pdf
pins: C (in), D (in), Q (out)

## OFDI_1
designator U?
Output D Flip-Flop with Inverted Clock (Asynchronous Preset); FPGAVendor: Xilinx; Published: 14-Mar-2007; Publisher: Altium Limited; HelpURL: http://toolbox.xilinx.com/docsan/xilinx7/books/docs/lib/lib.pdf
pins: C (in), D (in), Q (out)

## OFDT
designator U?
Single D Flip-Flop with Active-Low 3-State Output Enable Buffer; FPGAVendor: Xilinx; Published: 14-Mar-2007; Publisher: Altium Limited; HelpURL: http://toolbox.xilinx.com/docsan/xilinx7/books/docs/lib/lib.pdf
pins: C (in), D (in), O (out), T (in)
text: Q

## OFDT4
designator U?
Multiple D Flip-Flops with Active-Low 3-State Output Enable Buffers; FPGAVendor: Xilinx; Published: 14-Mar-2007; Publisher: Altium Limited; HelpURL: http://toolbox.xilinx.com/docsan/xilinx7/books/docs/lib/lib.pdf
pins: C (in), D0 (in), D1 (in), D2 (in), D3 (in), Q0 (out), Q1 (out), Q2 (out), Q3 (out), T (in)

## OFDT8
designator U?
Multiple D Flip-Flops with Active-Low 3-State Output Enable Buffers; FPGAVendor: Xilinx; Published: 14-Mar-2007; Publisher: Altium Limited; HelpURL: http://toolbox.xilinx.com/docsan/xilinx7/books/docs/lib/lib.pdf
pins: C (in), D[7..0] (in), Q[7..0] (out), T (in)
text: D; Q

## OFDT16
designator U?
Multiple D Flip-Flops with Active-Low 3-State Output Enable Buffers; FPGAVendor: Xilinx; Published: 14-Mar-2007; Publisher: Altium Limited; HelpURL: http://toolbox.xilinx.com/docsan/xilinx7/books/docs/lib/lib.pdf
pins: C (in), D[15..0] (in), Q[15..0] (out), T (in)
text: D; Q

## OFDT_1
designator U?
D Flip-Flop with Active-Low 3-State Output Buffer and Inverted Clock; FPGAVendor: Xilinx; Published: 14-Mar-2007; Publisher: Altium Limited; HelpURL: http://toolbox.xilinx.com/docsan/xilinx7/books/docs/lib/lib.pdf
pins: C (in), D (in), O (out), T (in)
text: Q

## OFDX
designator U?
Single-Output D Flip-Flop with Clock Enable; FPGAVendor: Xilinx; Published: 14-Mar-2007; Publisher: Altium Limited; HelpURL: http://toolbox.xilinx.com/docsan/xilinx7/books/docs/lib/lib.pdf
pins: C (in), CE (in), D (in), Q (out)

## OFDX4
designator U?
Multiple-Output D Flip-Flops with Clock Enable; FPGAVendor: Xilinx; Published: 14-Mar-2007; Publisher: Altium Limited; HelpURL: http://toolbox.xilinx.com/docsan/xilinx7/books/docs/lib/lib.pdf
pins: C (in), CE (in), D0 (in), D1 (in), D2 (in), D3 (in), Q0 (out), Q1 (out), Q2 (out), Q3 (out)

## OFDX8
designator U?
Multiple-Output D Flip-Flops with Clock Enable; FPGAVendor: Xilinx; Published: 14-Mar-2007; Publisher: Altium Limited; HelpURL: http://toolbox.xilinx.com/docsan/xilinx7/books/docs/lib/lib.pdf
pins: C (in), CE (in), D[7..0] (in), Q[7..0] (out)

## OFDX16
designator U?
Multiple-Output D Flip-Flops with Clock Enable; FPGAVendor: Xilinx; Published: 14-Mar-2007; Publisher: Altium Limited; HelpURL: http://toolbox.xilinx.com/docsan/xilinx7/books/docs/lib/lib.pdf
pins: C (in), CE (in), D[15..0] (in), Q[15..0] (out)

## OFDX_1
designator U?
Output D Flip-Flop with Inverted Clock and Clock Enable; FPGAVendor: Xilinx; Published: 14-Mar-2007; Publisher: Altium Limited; HelpURL: http://toolbox.xilinx.com/docsan/xilinx7/books/docs/lib/lib.pdf
pins: C (in), CE (in), D (in), Q (out)

## OFDXI
designator U?
Output D Flip-Flop with Clock Enable (Asynchronous Preset); FPGAVendor: Xilinx; Published: 14-Mar-2007; Publisher: Altium Limited; HelpURL: http://toolbox.xilinx.com/docsan/xilinx7/books/docs/lib/lib.pdf
pins: C (in), CE (in), D (in), Q (out)

## OFDXI_1
designator U?
Output D Flip-Flop with Inverted Clock and Clock Enable (Asynchronous Preset); FPGAVendor: Xilinx; Published: 14-Mar-2007; Publisher: Altium Limited; HelpURL: http://toolbox.xilinx.com/docsan/xilinx7/books/docs/lib/lib.pdf
pins: C (in), CE (in), D (in), Q (out)

## OPAD
designator U?
Single-Output Pad; FPGAVendor: Xilinx; Published: 14-Mar-2007; Publisher: Altium Limited; HelpURL: http://toolbox.xilinx.com/docsan/xilinx7/books/docs/lib/lib.pdf
pins: O (in)

## OPAD4
designator U?
Multiple-Output Pads; FPGAVendor: Xilinx; Published: 14-Mar-2007; Publisher: Altium Limited; HelpURL: http://toolbox.xilinx.com/docsan/xilinx7/books/docs/lib/lib.pdf
pins: O0 (in), O1 (in), O2 (in), O3 (in)

## OPAD8
designator U?
Multiple-Output Pads; FPGAVendor: Xilinx; Published: 14-Mar-2007; Publisher: Altium Limited; HelpURL: http://toolbox.xilinx.com/docsan/xilinx7/books/docs/lib/lib.pdf
pins: O0 (in), O1 (in), O2 (in), O3 (in), O4 (in), O5 (in), O6 (in), O7 (in)

## OPAD16
designator U?
Multiple-Output Pads; FPGAVendor: Xilinx; Published: 14-Mar-2007; Publisher: Altium Limited; HelpURL: http://toolbox.xilinx.com/docsan/xilinx7/books/docs/lib/lib.pdf
pins: O0 (in), O1 (in), O2 (in), O3 (in), O4 (in), O5 (in), O6 (in), O7 (in), O8 (in), O9 (in), O10 (in), O11 (in), O12 (in), O13 (in), O14 (in), O15 (in)

## OR2
designator U?
2-Input OR Gate; FPGAVendor: Xilinx; Published: 14-Mar-2007; Publisher: Altium Limited; HelpURL: http://toolbox.xilinx.com/docsan/xilinx7/books/docs/lib/lib.pdf
pins: I0 (in), I1 (in), O (out)

## OR2B1
designator U?
2-Input OR Gate with One Inverted Input; FPGAVendor: Xilinx; Published: 14-Mar-2007; Publisher: Altium Limited; HelpURL: http://toolbox.xilinx.com/docsan/xilinx7/books/docs/lib/lib.pdf
pins: I0 (in), I1 (in), O (out)

## OR2B2
designator U?
2-Input OR Gate with Two Inverted Inputs; FPGAVendor: Xilinx; Published: 14-Mar-2007; Publisher: Altium Limited; HelpURL: http://toolbox.xilinx.com/docsan/xilinx7/books/docs/lib/lib.pdf
pins: I0 (in), I1 (in), O (out)

## OR3
designator U?
3-Input OR Gate; FPGAVendor: Xilinx; Published: 14-Mar-2007; Publisher: Altium Limited; HelpURL: http://toolbox.xilinx.com/docsan/xilinx7/books/docs/lib/lib.pdf
pins: I0 (in), I1 (in), I2 (in), O (out)

## OR3B1
designator U?
3-Input OR Gate with One Inverted Input; FPGAVendor: Xilinx; Published: 14-Mar-2007; Publisher: Altium Limited; HelpURL: http://toolbox.xilinx.com/docsan/xilinx7/books/docs/lib/lib.pdf
pins: I0 (in), I1 (in), I2 (in), O (out)

## OR3B2
designator U?
3-Input OR Gate with Two Inverted Inputs; FPGAVendor: Xilinx; Published: 14-Mar-2007; Publisher: Altium Limited; HelpURL: http://toolbox.xilinx.com/docsan/xilinx7/books/docs/lib/lib.pdf
pins: I0 (in), I1 (in), I2 (in), O (out)

## OR3B3
designator U?
3-Input OR Gate with Three Inverted Inputs; FPGAVendor: Xilinx; Published: 14-Mar-2007; Publisher: Altium Limited; HelpURL: http://toolbox.xilinx.com/docsan/xilinx7/books/docs/lib/lib.pdf
pins: I0 (in), I1 (in), I2 (in), O (out)

## OR4
designator U?
4-Input OR Gate; FPGAVendor: Xilinx; Published: 14-Mar-2007; Publisher: Altium Limited; HelpURL: http://toolbox.xilinx.com/docsan/xilinx7/books/docs/lib/lib.pdf
pins: I0 (in), I1 (in), I2 (in), I3 (in), O (out)

## OR4B1
designator U?
4-Input OR Gate with One Inverted Input; FPGAVendor: Xilinx; Published: 14-Mar-2007; Publisher: Altium Limited; HelpURL: http://toolbox.xilinx.com/docsan/xilinx7/books/docs/lib/lib.pdf
pins: I0 (in), I1 (in), I2 (in), I3 (in), O (out)

## OR4B2
designator U?
4-Input OR Gate with Two Inverted Inputs; FPGAVendor: Xilinx; Published: 14-Mar-2007; Publisher: Altium Limited; HelpURL: http://toolbox.xilinx.com/docsan/xilinx7/books/docs/lib/lib.pdf
pins: I0 (in), I1 (in), I2 (in), I3 (in), O (out)

## OR4B3
designator U?
4-Input OR Gate with Three Inverted Inputs; FPGAVendor: Xilinx; Published: 14-Mar-2007; Publisher: Altium Limited; HelpURL: http://toolbox.xilinx.com/docsan/xilinx7/books/docs/lib/lib.pdf
pins: I0 (in), I1 (in), I2 (in), I3 (in), O (out)

## OR4B4
designator U?
4-Input OR Gate with Four Inverted Inputs; FPGAVendor: Xilinx; Published: 14-Mar-2007; Publisher: Altium Limited; HelpURL: http://toolbox.xilinx.com/docsan/xilinx7/books/docs/lib/lib.pdf
pins: I0 (in), I1 (in), I2 (in), I3 (in), O (out)

## OR5
designator U?
5-Input OR Gate; FPGAVendor: Xilinx; Published: 14-Mar-2007; Publisher: Altium Limited; HelpURL: http://toolbox.xilinx.com/docsan/xilinx7/books/docs/lib/lib.pdf
pins: I0 (in), I1 (in), I2 (in), I3 (in), I4 (in), O (out)

## OR5B1
designator U?
5-Input OR Gate with One Inverted Input; FPGAVendor: Xilinx; Published: 14-Mar-2007; Publisher: Altium Limited; HelpURL: http://toolbox.xilinx.com/docsan/xilinx7/books/docs/lib/lib.pdf
pins: I0 (in), I1 (in), I2 (in), I3 (in), I4 (in), O (out)

## OR5B2
designator U?
5-Input OR Gate with Two Inverted Inputs; FPGAVendor: Xilinx; Published: 14-Mar-2007; Publisher: Altium Limited; HelpURL: http://toolbox.xilinx.com/docsan/xilinx7/books/docs/lib/lib.pdf
pins: I0 (in), I1 (in), I2 (in), I3 (in), I4 (in), O (out)

## OR5B3
designator U?
5-Input OR Gate with Three Inverted Inputs; FPGAVendor: Xilinx; Published: 14-Mar-2007; Publisher: Altium Limited; HelpURL: http://toolbox.xilinx.com/docsan/xilinx7/books/docs/lib/lib.pdf
pins: I0 (in), I1 (in), I2 (in), I3 (in), I4 (in), O (out)

## OR5B4
designator U?
5-Input OR Gate with Four Inverted Inputs; FPGAVendor: Xilinx; Published: 14-Mar-2007; Publisher: Altium Limited; HelpURL: http://toolbox.xilinx.com/docsan/xilinx7/books/docs/lib/lib.pdf
pins: I0 (in), I1 (in), I2 (in), I3 (in), I4 (in), O (out)

## OR5B5
designator U?
5-Input OR Gate with Five Inverted Inputs; FPGAVendor: Xilinx; Published: 14-Mar-2007; Publisher: Altium Limited; HelpURL: http://toolbox.xilinx.com/docsan/xilinx7/books/docs/lib/lib.pdf
pins: I0 (in), I1 (in), I2 (in), I3 (in), I4 (in), O (out)

## OR6
designator U?
6-Input OR Gate; FPGAVendor: Xilinx; Published: 14-Mar-2007; Publisher: Altium Limited; HelpURL: http://toolbox.xilinx.com/docsan/xilinx7/books/docs/lib/lib.pdf
pins: I0 (in), I1 (in), I2 (in), I3 (in), I4 (in), I5 (in), O (out)

## OR7
designator U?
7-Input OR Gate; FPGAVendor: Xilinx; Published: 14-Mar-2007; Publisher: Altium Limited; HelpURL: http://toolbox.xilinx.com/docsan/xilinx7/books/docs/lib/lib.pdf
pins: I0 (in), I1 (in), I2 (in), I3 (in), I4 (in), I5 (in), I6 (in), O (out)

## OR8
designator U?
8-Input OR Gate; FPGAVendor: Xilinx; Published: 14-Mar-2007; Publisher: Altium Limited; HelpURL: http://toolbox.xilinx.com/docsan/xilinx7/books/docs/lib/lib.pdf
pins: I0 (in), I1 (in), I2 (in), I3 (in), I4 (in), I5 (in), I6 (in), I7 (in), O (out)

## OR9
designator U?
9-Input OR Gate; FPGAVendor: Xilinx; Published: 14-Mar-2007; Publisher: Altium Limited; HelpURL: http://toolbox.xilinx.com/docsan/xilinx7/books/docs/lib/lib.pdf
pins: I0 (in), I1 (in), I2 (in), I3 (in), I4 (in), I5 (in), I6 (in), I7 (in), I8 (in), O (out)

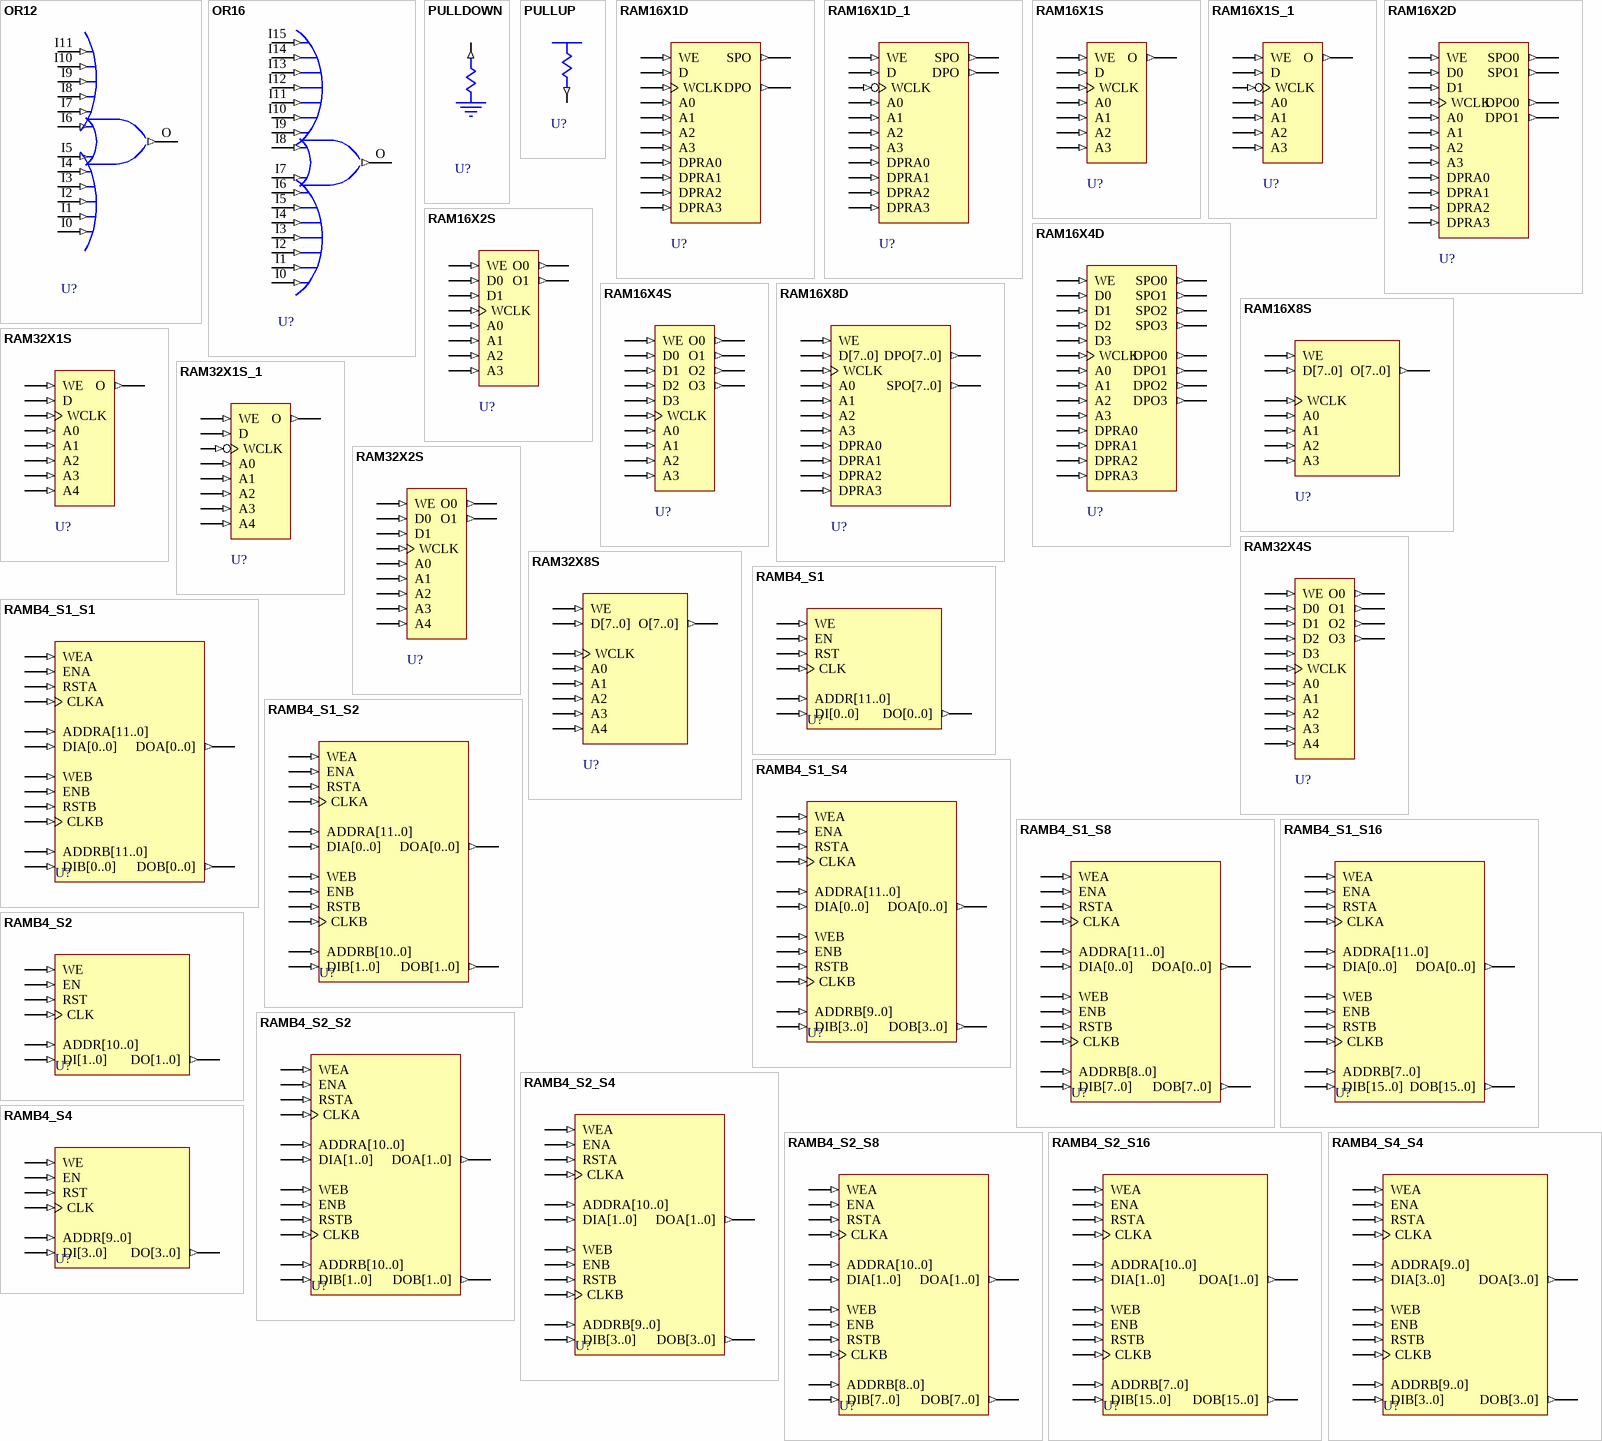
[diagram p13: symbols OR12 to RAMB4_S4_S4]

## OR12
designator U?
12-Input OR Gate; FPGAVendor: Xilinx; Published: 14-Mar-2007; Publisher: Altium Limited; HelpURL: http://toolbox.xilinx.com/docsan/xilinx7/books/docs/lib/lib.pdf
pins: I0 (in), I1 (in), I2 (in), I3 (in), I4 (in), I5 (in), I6 (in), I7 (in), I8 (in), I9 (in), I10 (in), I11 (in), O (out)

## OR16
designator U?
16-Input OR Gate; FPGAVendor: Xilinx; Published: 14-Mar-2007; Publisher: Altium Limited; HelpURL: http://toolbox.xilinx.com/docsan/xilinx7/books/docs/lib/lib.pdf
pins: I0 (in), I1 (in), I2 (in), I3 (in), I4 (in), I5 (in), I6 (in), I7 (in), I8 (in), I9 (in), I10 (in), I11 (in), I12 (in), I13 (in), I14 (in), I15 (in), O (out)

## PULLDOWN
designator U?
Resistor to GND for Input Pads; FPGAVendor: Xilinx; Published: 14-Mar-2007; Publisher: Altium Limited; HelpURL: http://toolbox.xilinx.com/docsan/xilinx7/books/docs/lib/lib.pdf
pins: O (out)

## PULLUP
designator U?
Resistor to VCC for Input PADs, Open-Drain, and 3-State Outputs; FPGAVendor: Xilinx; Published: 14-Mar-2007; Publisher: Altium Limited; HelpURL: http://toolbox.xilinx.com/docsan/xilinx7/books/docs/lib/lib.pdf
pins: O (out)

## RAM16X1D
designator U?
16-Deep by 1-Wide Static Dual Port Synchronous RAM; FPGAVendor: Xilinx; Published: 14-Mar-2007; Publisher: Altium Limited; HelpURL: http://toolbox.xilinx.com/docsan/xilinx7/books/docs/lib/lib.pdf
pins: A0 (in), A1 (in), A2 (in), A3 (in), D (in), DPO (out), DPRA0 (in), DPRA1 (in), DPRA2 (in), DPRA3 (in), SPO (out), WCLK (in), WE (in)

## RAM16X1D_1
designator U?
16-Deep by 1-Wide Static Dual Port Synchronous RAM with Negative-Edge Clock; FPGAVendor: Xilinx; Published: 14-Mar-2007; Publisher: Altium Limited; HelpURL: http://toolbox.xilinx.com/docsan/xilinx7/books/docs/lib/lib.pdf
pins: A0 (in), A1 (in), A2 (in), A3 (in), D (in), DPO (out), DPRA0 (in), DPRA1 (in), DPRA2 (in), DPRA3 (in), SPO (out), WCLK (in), WE (in)

## RAM16X1S
designator U?
16-Deep by 1-Wide Static Synchronous RAM; FPGAVendor: Xilinx; Published: 14-Mar-2007; Publisher: Altium Limited; HelpURL: http://toolbox.xilinx.com/docsan/xilinx7/books/docs/lib/lib.pdf
pins: A0 (in), A1 (in), A2 (in), A3 (in), D (in), O (out), WCLK (in), WE (in)

## RAM16X1S_1
designator U?
16-Deep by 1-Wide Static Synchronous RAM with Negative-Edge Clock; FPGAVendor: Xilinx; Published: 14-Mar-2007; Publisher: Altium Limited; HelpURL: http://toolbox.xilinx.com/docsan/xilinx7/books/docs/lib/lib.pdf
pins: A0 (in), A1 (in), A2 (in), A3 (in), D (in), O (out), WCLK (in), WE (in)

## RAM16X2D
designator U?
16-Deep by 2-Wide Static Dual Port Synchronous RAM; FPGAVendor: Xilinx; Published: 14-Mar-2007; Publisher: Altium Limited; HelpURL: http://toolbox.xilinx.com/docsan/xilinx7/books/docs/lib/lib.pdf
pins: A0 (in), A1 (in), A2 (in), A3 (in), D0 (in), D1 (in), DPO0 (out), DPO1 (out), DPRA0 (in), DPRA1 (in), DPRA2 (in), DPRA3 (in), SPO0 (out), SPO1 (out), WCLK (in), WE (in)

## RAM16X2S
designator U?
16-Deep by 2-Wide Static Synchronous RAM; FPGAVendor: Xilinx; Published: 14-Mar-2007; Publisher: Altium Limited; HelpURL: http://toolbox.xilinx.com/docsan/xilinx7/books/docs/lib/lib.pdf
pins: A0 (in), A1 (in), A2 (in), A3 (in), D0 (in), D1 (in), O0 (out), O1 (out), WCLK (in), WE (in)

## RAM16X4D
designator U?
16-Deep by 4-Wide Static Dual Port Synchronous RAM; FPGAVendor: Xilinx; Published: 14-Mar-2007; Publisher: Altium Limited; HelpURL: http://toolbox.xilinx.com/docsan/xilinx7/books/docs/lib/lib.pdf
pins: A0 (in), A1 (in), A2 (in), A3 (in), D0 (in), D1 (in), D2 (in), D3 (in), DPO0 (out), DPO1 (out), DPO2 (out), DPO3 (out), DPRA0 (in), DPRA1 (in), DPRA2 (in), DPRA3 (in), SPO0 (out), SPO1 (out), SPO2 (out), SPO3 (out), WCLK (in), WE (in)

## RAM16X4S
designator U?
16-Deep by 4-Wide Static Synchronous RAM; FPGAVendor: Xilinx; Published: 14-Mar-2007; Publisher: Altium Limited; HelpURL: http://toolbox.xilinx.com/docsan/xilinx7/books/docs/lib/lib.pdf
pins: A0 (in), A1 (in), A2 (in), A3 (in), D0 (in), D1 (in), D2 (in), D3 (in), O0 (out), O1 (out), O2 (out), O3 (out), WCLK (in), WE (in)

## RAM16X8D
designator U?
16-Deep by 8-Wide Static Dual Port Synchronous RAM; FPGAVendor: Xilinx; Published: 14-Mar-2007; Publisher: Altium Limited; HelpURL: http://toolbox.xilinx.com/docsan/xilinx7/books/docs/lib/lib.pdf
pins: A0 (in), A1 (in), A2 (in), A3 (in), D[7..0] (in), DPO[7..0] (out), DPRA0 (in), DPRA1 (in), DPRA2 (in), DPRA3 (in), SPO[7..0] (out), WCLK (in), WE (in)

## RAM16X8S
designator U?
16-Deep by 8-Wide Static Synchronous RAM; FPGAVendor: Xilinx; Published: 14-Mar-2007; Publisher: Altium Limited; HelpURL: http://toolbox.xilinx.com/docsan/xilinx7/books/docs/lib/lib.pdf
pins: A0 (in), A1 (in), A2 (in), A3 (in), D[7..0] (in), O[7..0] (out), WCLK (in), WE (in)

## RAM32X1S
designator U?
32-Deep by 1-Wide Static Synchronous RAM; FPGAVendor: Xilinx; Published: 14-Mar-2007; Publisher: Altium Limited; HelpURL: http://toolbox.xilinx.com/docsan/xilinx7/books/docs/lib/lib.pdf
pins: A0 (in), A1 (in), A2 (in), A3 (in), A4 (in), D (in), O (out), WCLK (in), WE (in)

## RAM32X1S_1
designator U?
32-Deep by 1-Wide Static Synchronous RAM with Negative-Edge Clock; FPGAVendor: Xilinx; Published: 14-Mar-2007; Publisher: Altium Limited; HelpURL: http://toolbox.xilinx.com/docsan/xilinx7/books/docs/lib/lib.pdf
pins: A0 (in), A1 (in), A2 (in), A3 (in), A4 (in), D (in), O (out), WCLK (in), WE (in)

## RAM32X2S
designator U?
32-Deep by 2-Wide Static Synchronous RAM; FPGAVendor: Xilinx; Published: 14-Mar-2007; Publisher: Altium Limited; HelpURL: http://toolbox.xilinx.com/docsan/xilinx7/books/docs/lib/lib.pdf
pins: A0 (in), A1 (in), A2 (in), A3 (in), A4 (in), D0 (in), D1 (in), O0 (out), O1 (out), WCLK (in), WE (in)

## RAM32X4S
designator U?
32-Deep by 4-Wide Static Synchronous RAM; FPGAVendor: Xilinx; Published: 14-Mar-2007; Publisher: Altium Limited; HelpURL: http://toolbox.xilinx.com/docsan/xilinx7/books/docs/lib/lib.pdf
pins: A0 (in), A1 (in), A2 (in), A3 (in), A4 (in), D0 (in), D1 (in), D2 (in), D3 (in), O0 (out), O1 (out), O2 (out), O3 (out), WCLK (in), WE (in)

## RAM32X8S
designator U?
32-Deep by 8-Wide Static Synchronous RAM; FPGAVendor: Xilinx; Published: 14-Mar-2007; Publisher: Altium Limited; HelpURL: http://toolbox.xilinx.com/docsan/xilinx7/books/docs/lib/lib.pdf
pins: A0 (in), A1 (in), A2 (in), A3 (in), A4 (in), D[7..0] (in), O[7..0] (out), WCLK (in), WE (in)

## RAMB4_S1
designator U?
4096-Bit Single-Port Synchronous Block RAM with 1-bit-wide Port; FPGAVendor: Xilinx; Published: 14-Mar-2007; Publisher: Altium Limited; HelpURL: http://toolbox.xilinx.com/docsan/xilinx7/books/docs/lib/lib.pdf
pins: ADDR[11..0] (in), CLK (in), DI[0..0] (in), DO[0..0] (out), EN (in), RST (in), WE (in)

## RAMB4_S1_S1
designator U?
4096-Bit Dual-Port Synchronous Block RAM with 1-bit-wide Ports; FPGAVendor: Xilinx; Published: 14-Mar-2007; Publisher: Altium Limited; HelpURL: http://toolbox.xilinx.com/docsan/xilinx7/books/docs/lib/lib.pdf
pins: ADDRA[11..0] (in), ADDRB[11..0] (in), CLKA (in), CLKB (in), DIA[0..0] (in), DIB[0..0] (in), DOA[0..0] (out), DOB[0..0] (out), ENA (in), ENB (in), RSTA (in), RSTB (in), WEA (in), WEB (in)

## RAMB4_S1_S2
designator U?
4096-Bit Dual-Port Synchronous Block RAM with a 1-bit-wide Port and a 2-bit-wide Port; FPGAVendor: Xilinx; Published: 14-Mar-2007; Publisher: Altium Limited; HelpURL: http://toolbox.xilinx.com/docsan/xilinx7/books/docs/lib/lib.pdf
pins: ADDRA[11..0] (in), ADDRB[10..0] (in), CLKA (in), CLKB (in), DIA[0..0] (in), DIB[1..0] (in), DOA[0..0] (out), DOB[1..0] (out), ENA (in), ENB (in), RSTA (in), RSTB (in), WEA (in), WEB (in)

## RAMB4_S1_S4
designator U?
4096-Bit Dual-Port Synchronous Block RAM with a 1-bit-wide Port and a 4-bit-wide Port; FPGAVendor: Xilinx; Published: 14-Mar-2007; Publisher: Altium Limited; HelpURL: http://toolbox.xilinx.com/docsan/xilinx7/books/docs/lib/lib.pdf
pins: ADDRA[11..0] (in), ADDRB[9..0] (in), CLKA (in), CLKB (in), DIA[0..0] (in), DIB[3..0] (in), DOA[0..0] (out), DOB[3..0] (out), ENA (in), ENB (in), RSTA (in), RSTB (in), WEA (in), WEB (in)

## RAMB4_S1_S8
designator U?
4096-Bit Dual-Port Synchronous Block RAM with a 1-bit-wide Port and a 8-bit-wide Port; FPGAVendor: Xilinx; Published: 14-Mar-2007; Publisher: Altium Limited; HelpURL: http://toolbox.xilinx.com/docsan/xilinx7/books/docs/lib/lib.pdf
pins: ADDRA[11..0] (in), ADDRB[8..0] (in), CLKA (in), CLKB (in), DIA[0..0] (in), DIB[7..0] (in), DOA[0..0] (out), DOB[7..0] (out), ENA (in), ENB (in), RSTA (in), RSTB (in), WEA (in), WEB (in)

## RAMB4_S1_S16
designator U?
4096-Bit Dual-Port Synchronous Block RAM with Port Widths of 1 Bit and 16 Bits; FPGAVendor: Xilinx; Published: 14-Mar-2007; Publisher: Altium Limited; HelpURL: http://toolbox.xilinx.com/docsan/xilinx7/books/docs/lib/lib.pdf
pins: ADDRA[11..0] (in), ADDRB[7..0] (in), CLKA (in), CLKB (in), DIA[0..0] (in), DIB[15..0] (in), DOA[0..0] (out), DOB[15..0] (out), ENA (in), ENB (in), RSTA (in), RSTB (in), WEA (in), WEB (in)

## RAMB4_S2
designator U?
4096-Bit Single-Port Synchronous Block RAM with 2-bit-wide Port; FPGAVendor: Xilinx; Published: 14-Mar-2007; Publisher: Altium Limited; HelpURL: http://toolbox.xilinx.com/docsan/xilinx7/books/docs/lib/lib.pdf
pins: ADDR[10..0] (in), CLK (in), DI[1..0] (in), DO[1..0] (out), EN (in), RST (in), WE (in)